# Altium schematic symbol library Connector.SchLib: 5 symbols
Pins are listed as number, name and electrical type; pins without a type are passive.

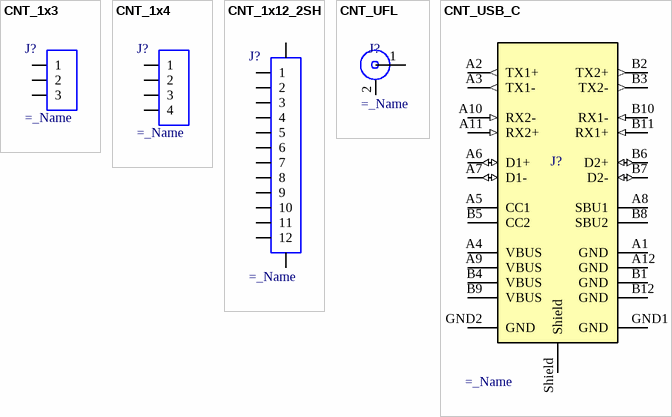
[diagram p0: symbols CNT_1x3 to CNT_USB_C]

## CNT_1x3
designator J?  (value not drawn)
=description; Value: =_Name
pins: 1, 2, 3

## CNT_1x4
designator J?  (value not drawn)
=description; Value: =_Name
pins: 1, 2, 3, 4

## CNT_1x12_2SH
designator J?  (value not drawn)
=description; Value: =_Name
pins: 1, 2, 3, 4, 5, 6, 7, 8, 9, 10, 11, 12, 13, 14

## CNT_UFL
designator J?  (value not drawn)
=description; Value: =_Name
pins: 1, 2

## CNT_USB_C
designator J?  (value not drawn)
=description; Value: =_Name
pins: A1 GND (power), A2 TX1+ (out), A3 TX1- (out), A4 VBUS (power), A5 CC1, A6 D1+ (io), A7 D1- (io), A8 SBU1, A9 VBUS (power), A10 RX2- (in), A11 RX2+ (in), A12 GND (power), B1 GND (power), B2 TX2+ (out), B3 TX2- (out), B4 VBUS (power), B5 CC2, B6 D2+ (io), B7 D2- (io), B8 SBU2, B9 VBUS (power), B10 RX1- (in), B11 RX1+ (in), B12 GND (power), GND1 GND, GND2 GND, Shield